# Altium footprint library CAP-TH_BD5.0-P2.00-D0.8-FD.PcbLib: 1 footprints
Each footprint in its own frame and in the unit in brackets; x right, y up, seen from the top. Pads: shape width x height; smd on the part's side, far side on the other; paste and mask are expansions set on the pad; w line width, h text height; cw(c..) or ccw(c..) is an arc to the next point about the centre after c.
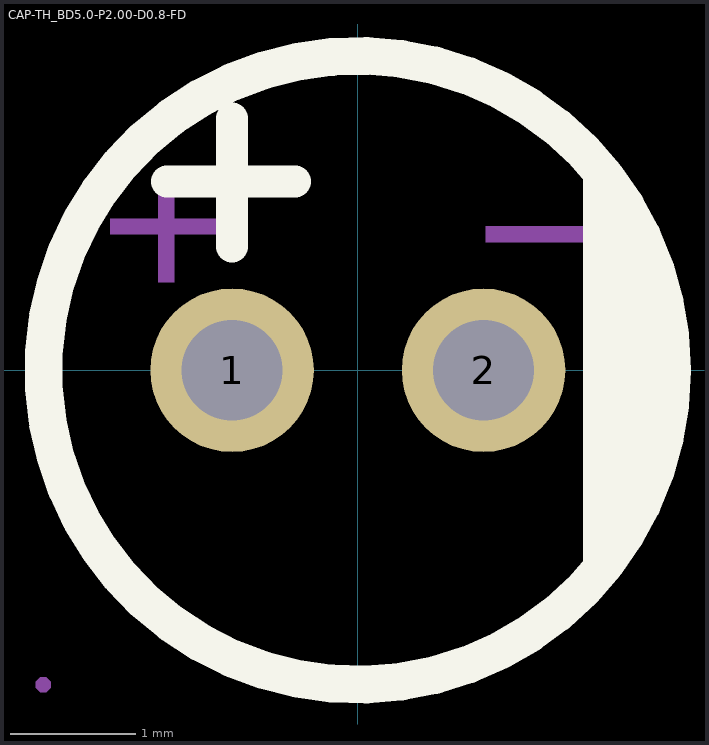
[diagram p0: the footprint, top view; thin cyan lines are the x and y axes]

## CAP-TH_BD5.0-P2.00-D0.8-FD [mm]
pads (2):
  round 1.3 hole 0.8: 1(-1,0) 2(1,0)
Top Overlay:
  circle w0.3: c0,0 r2.5
  region: 1.794,1.651 1.961,1.491 2.225,1.111 2.407,0.685 2.5,0.231 2.5,-0.231 2.407,-0.685 2.225,-1.111 1.961,-1.491 1.794,-1.651
  lines w0.254: -1.516,1.5 -0.5,1.5 ; -1,0.984 -1,2
Mechanical 6:
  region: 1.016,1.143 1.905,1.143 1.905,1.016 1.016,1.016
  region: -1.588,0.699 -1.588,1.587 -1.461,1.587 -1.46,0.699
  region: -1.969,1.206 -1.08,1.206 -1.08,1.079 -1.969,1.079
Mechanical 15:
  region: 1.3,0 1.3,-0.06 1.254,-0.17 1.17,-0.254 1.06,-0.3 0.94,-0.3 0.83,-0.254 0.746,-0.17 0.7,-0.06 0.7,0 0.7,0.06 0.746,0.17 0.83,0.254 0.94,0.3 1.06,0.3 1.17,0.254 1.254,0.17 1.3,0.06 1.3,0
  region: -0.7,0 -0.7,-0.06 -0.746,-0.17 -0.83,-0.254 -0.94,-0.3 -1.06,-0.3 -1.17,-0.254 -1.254,-0.17 -1.3,-0.06 -1.3,0 -1.3,0.06 -1.254,0.17 -1.17,0.254 -1.06,0.3 -0.94,0.3 -0.83,0.254 -0.746,0.17 -0.7,0.06 -0.7,0
  region: -2.44,-2.5 -2.44,-2.525 -2.475,-2.56 -2.525,-2.56 -2.56,-2.525 -2.56,-2.5 -2.56,-2.475 -2.525,-2.44 -2.475,-2.44 -2.44,-2.475 -2.44,-2.5
  lines w0.051: 0,-2.5 ccw(c0,0) 2.5,0 ; 0,-2.5 cw(c0,0) -2.5,0 cw(c0,0) 0,2.5 cw(c0,0) 2.5,0 ; 0,-2.5 0,-2.5 ; 2.5,0 2.5,0